# EAGLE library part 690357101072 (library Wurth_Elektronik_Electromechanic_Board_to_Board_Connectors_rev16a)
WR-MM Male Connector with Polarization, 10 Pins=>Code : Con_BTB_MM_Male_THT_690357101072 <http://katalog.we-online.de/media/thumbs2/eican/thb_Con_BTB_MM_Male_THT_69035710xx72_pf2.jpg> Details see: http://katalog.we-online.de/en/em/6903_5710_xx_72 Created 2014-06-04, Karrer Zheng 2014 (C) Würth Elektronik
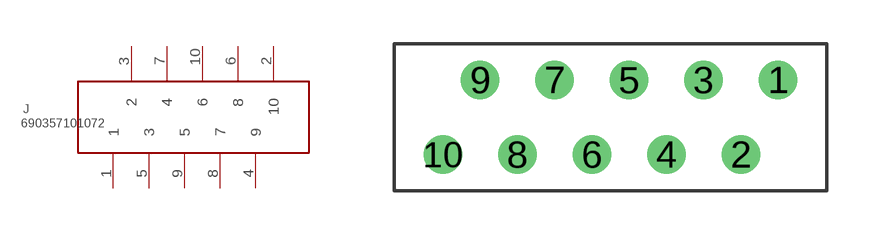
[diagram p323: symbol with the pads of 690357101072; footprint 690357101072]

Designator prefix J

## 690357101072  [690357101072]
1  1  pas
2  10  pas
3  2  pas
4  9  pas
5  3  pas
6  8  pas
7  4  pas
8  7  pas
9  5  pas
10  6  pas

## Footprint 690357101072 (pad centres in mm)
WR-MM Male Connector with Polarization, 10 Pins
drill 0.8: 1 7.03,1.27; 2 5.76,-1.27; 3 4.49,1.27; 4 3.22,-1.27; 5 1.95,1.27; 6 0.68,-1.27; 7 -0.59,1.27; 8 -1.86,-1.27; 9 -3.13,1.27; 10 -4.4,-1.27